# Altium schematic symbol library power_monitor_parts.SchLib: 1 symbol
Pins are listed as number, name and electrical type; pins without a type are passive.

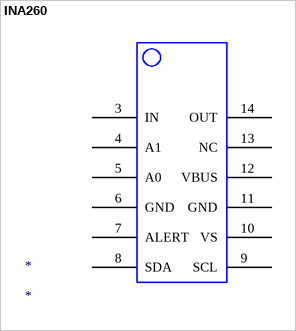
[diagram p0: symbol INA260]

## INA260
designator *
footprint INA260
pins: 3 IN, 4 A1, 5 A0, 6 GND, 7 ALERT, 8 SDA, 9 SCL, 10 VS, 11 GND, 12 VBUS, 13 NC, 14 OUT